# EAGLE library part LTC7004 (library Power Board Custom)
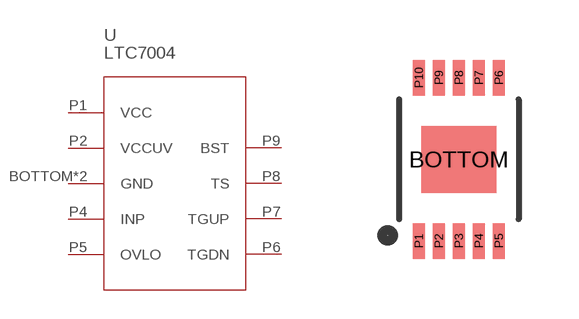
[diagram p3: symbol with the pads of 10-MSOP; footprint 10-MSOP]

Designator prefix -

## LTC7004  [10-MSOP]
BOTTOM  GND  pwr
P1  VCC  pwr
P2  VCCUV
P3  GND  pwr
P4  INP
P5  OVLO
P6  TGDN
P7  TGUP
P8  TS
P9  BST

## Footprint 10-MSOP (pad centres in mm)
smd 1.88 x 1.676: BOTTOM 0,0
smd 0.305 x 0.889: P1 -1.001,-2.045; P2 -0.5,-2.045; P3 0,-2.045; P4 0.5,-2.045; P5 1.001,-2.045; P6 1.001,2.045; P7 0.5,2.045; P8 0,2.045; P9 -0.5,2.045; P10 -1.001,2.045